# Altium integrated library CAP-CSGP_rev15b.intlib: 820 symbols (part 4 of 9)
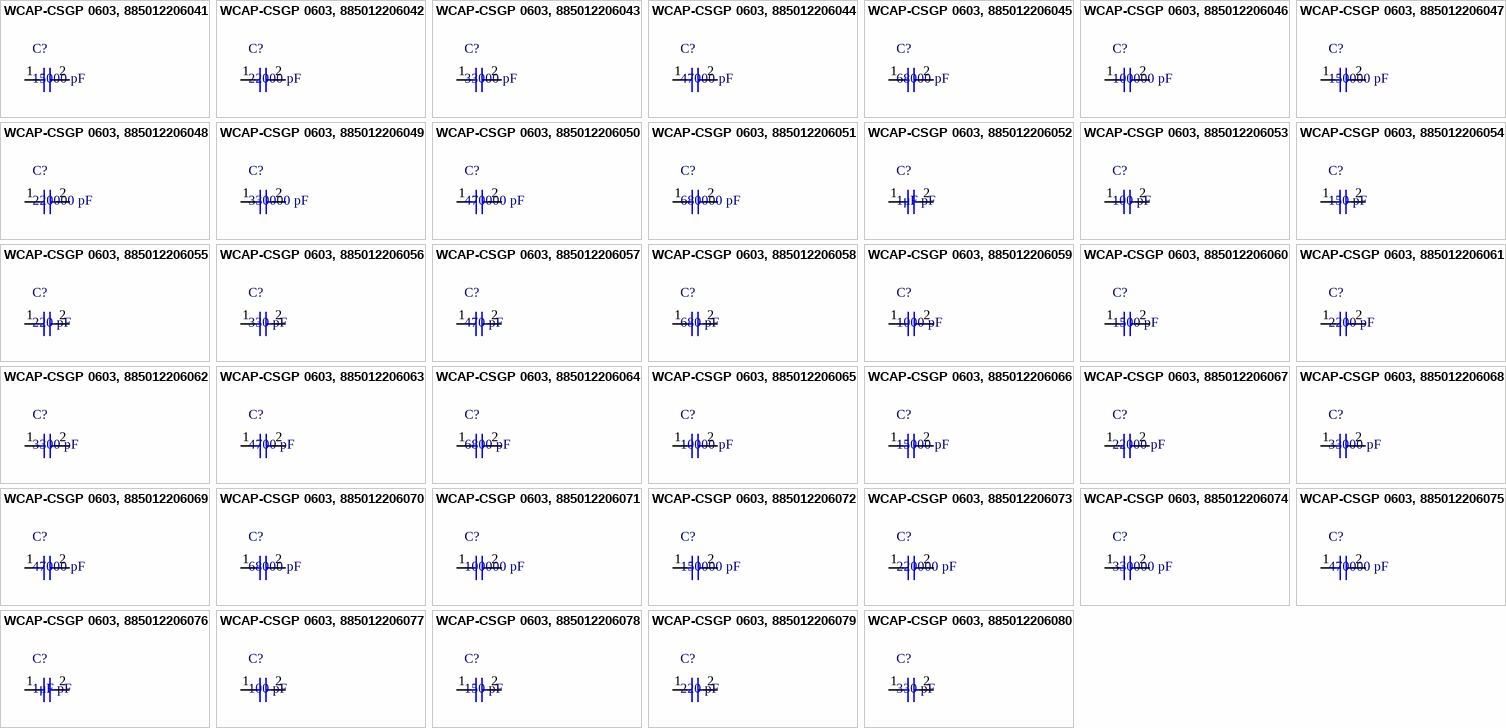
[diagram p31: symbols WCAP-CSGP 0603, 885012206041 to WCAP-CSGP 0603, 885012206080]

## WCAP-CSGP 0603, 885012206059
designator C?, comment 1000 pF
WCAP-CSGP MLCC, X7R, 0603, 1000 pF,25Vdc; Manufacturer: Wurth Elektronik; partNo: 885012206059; E-mail: libraries@we-online.com; ComponentLink1Description: Manufacturer; ComponentLink1URL: http://www.we-online.com; ComponentLink2Description: Datasheet; ComponentLink2URL: http://katalog.we-online.de/pbs/datasheet/885012206059.pdf; Created by: Karrer Zheng; Created Date: 3/9/2015; Capacitance: 1000 pF
footprint WCAP-CSGP 0603, H=0.8mm
pins: 1, 2

## WCAP-CSGP 0603, 885012206060
designator C?, comment 1500 pF
WCAP-CSGP MLCC, X7R, 0603, 1500 pF,25Vdc; Manufacturer: Wurth Elektronik; partNo: 885012206060; E-mail: libraries@we-online.com; ComponentLink1Description: Manufacturer; ComponentLink1URL: http://www.we-online.com; ComponentLink2Description: Datasheet; ComponentLink2URL: http://katalog.we-online.de/pbs/datasheet/885012206060.pdf; Created by: Karrer Zheng; Created Date: 3/9/2015; Capacitance: 1500 pF
footprint WCAP-CSGP 0603, H=0.8mm
pins: 1, 2

## WCAP-CSGP 0603, 885012206061
designator C?, comment 2200 pF
WCAP-CSGP MLCC, X7R, 0603, 2200 pF,25Vdc; Manufacturer: Wurth Elektronik; partNo: 885012206061; E-mail: libraries@we-online.com; ComponentLink1Description: Manufacturer; ComponentLink1URL: http://www.we-online.com; ComponentLink2Description: Datasheet; ComponentLink2URL: http://katalog.we-online.de/pbs/datasheet/885012206061.pdf; Created by: Karrer Zheng; Created Date: 3/9/2015; Capacitance: 2200 pF
footprint WCAP-CSGP 0603, H=0.8mm
pins: 1, 2

## WCAP-CSGP 0603, 885012206062
designator C?, comment 3300 pF
WCAP-CSGP MLCC, X7R, 0603, 3300 pF,25Vdc; Manufacturer: Wurth Elektronik; partNo: 885012206062; E-mail: libraries@we-online.com; ComponentLink1Description: Manufacturer; ComponentLink1URL: http://www.we-online.com; ComponentLink2Description: Datasheet; ComponentLink2URL: http://katalog.we-online.de/pbs/datasheet/885012206062.pdf; Created by: Karrer Zheng; Created Date: 3/9/2015; Capacitance: 3300 pF
footprint WCAP-CSGP 0603, H=0.8mm
pins: 1, 2

## WCAP-CSGP 0603, 885012206063
designator C?, comment 4700 pF
WCAP-CSGP MLCC, X7R, 0603, 4700 pF,25Vdc; Manufacturer: Wurth Elektronik; partNo: 885012206063; E-mail: libraries@we-online.com; ComponentLink1Description: Manufacturer; ComponentLink1URL: http://www.we-online.com; ComponentLink2Description: Datasheet; ComponentLink2URL: http://katalog.we-online.de/pbs/datasheet/885012206063.pdf; Created by: Karrer Zheng; Created Date: 3/9/2015; Capacitance: 4700 pF
footprint WCAP-CSGP 0603, H=0.8mm
pins: 1, 2

## WCAP-CSGP 0603, 885012206064
designator C?, comment 6800 pF
WCAP-CSGP MLCC, X7R, 0603, 6800 pF,25Vdc; Manufacturer: Wurth Elektronik; partNo: 885012206064; E-mail: libraries@we-online.com; ComponentLink1Description: Manufacturer; ComponentLink1URL: http://www.we-online.com; ComponentLink2Description: Datasheet; ComponentLink2URL: http://katalog.we-online.de/pbs/datasheet/885012206064.pdf; Created by: Karrer Zheng; Created Date: 3/9/2015; Capacitance: 6800 pF
footprint WCAP-CSGP 0603, H=0.8mm
pins: 1, 2

## WCAP-CSGP 0603, 885012206065
designator C?, comment 10000 pF
WCAP-CSGP MLCC, X7R, 0603, 10000 pF,25Vdc; Manufacturer: Wurth Elektronik; partNo: 885012206065; E-mail: libraries@we-online.com; ComponentLink1Description: Manufacturer; ComponentLink1URL: http://www.we-online.com; ComponentLink2Description: Datasheet; ComponentLink2URL: http://katalog.we-online.de/pbs/datasheet/885012206065.pdf; Created by: Karrer Zheng; Created Date: 3/9/2015; Capacitance: 10000 pF
footprint WCAP-CSGP 0603, H=0.8mm
pins: 1, 2

## WCAP-CSGP 0603, 885012206066
designator C?, comment 15000 pF
WCAP-CSGP MLCC, X7R, 0603, 15000 pF,25Vdc; Manufacturer: Wurth Elektronik; partNo: 885012206066; E-mail: libraries@we-online.com; ComponentLink1Description: Manufacturer; ComponentLink1URL: http://www.we-online.com; ComponentLink2Description: Datasheet; ComponentLink2URL: http://katalog.we-online.de/pbs/datasheet/885012206066.pdf; Created by: Karrer Zheng; Created Date: 3/9/2015; Capacitance: 15000 pF
footprint WCAP-CSGP 0603, H=0.8mm
pins: 1, 2

## WCAP-CSGP 0603, 885012206067
designator C?, comment 22000 pF
WCAP-CSGP MLCC, X7R, 0603, 22000 pF,25Vdc; Manufacturer: Wurth Elektronik; partNo: 885012206067; E-mail: libraries@we-online.com; ComponentLink1Description: Manufacturer; ComponentLink1URL: http://www.we-online.com; ComponentLink2Description: Datasheet; ComponentLink2URL: http://katalog.we-online.de/pbs/datasheet/885012206067.pdf; Created by: Karrer Zheng; Created Date: 3/9/2015; Capacitance: 22000 pF
footprint WCAP-CSGP 0603, H=0.8mm
pins: 1, 2

## WCAP-CSGP 0603, 885012206068
designator C?, comment 33000 pF
WCAP-CSGP MLCC, X7R, 0603, 33000 pF,25Vdc; Manufacturer: Wurth Elektronik; partNo: 885012206068; E-mail: libraries@we-online.com; ComponentLink1Description: Manufacturer; ComponentLink1URL: http://www.we-online.com; ComponentLink2Description: Datasheet; ComponentLink2URL: http://katalog.we-online.de/pbs/datasheet/885012206068.pdf; Created by: Karrer Zheng; Created Date: 3/9/2015; Capacitance: 33000 pF
footprint WCAP-CSGP 0603, H=0.8mm
pins: 1, 2

## WCAP-CSGP 0603, 885012206069
designator C?, comment 47000 pF
WCAP-CSGP MLCC, X7R, 0603, 47000 pF,25Vdc; Manufacturer: Wurth Elektronik; partNo: 885012206069; E-mail: libraries@we-online.com; ComponentLink1Description: Manufacturer; ComponentLink1URL: http://www.we-online.com; ComponentLink2Description: Datasheet; ComponentLink2URL: http://katalog.we-online.de/pbs/datasheet/885012206069.pdf; Created by: Karrer Zheng; Created Date: 3/9/2015; Capacitance: 47000 pF
footprint WCAP-CSGP 0603, H=0.8mm
pins: 1, 2

## WCAP-CSGP 0603, 885012206070
designator C?, comment 68000 pF
WCAP-CSGP MLCC, X7R, 0603, 68000 pF,25Vdc; Manufacturer: Wurth Elektronik; partNo: 885012206070; E-mail: libraries@we-online.com; ComponentLink1Description: Manufacturer; ComponentLink1URL: http://www.we-online.com; ComponentLink2Description: Datasheet; ComponentLink2URL: http://katalog.we-online.de/pbs/datasheet/885012206070.pdf; Created by: Karrer Zheng; Created Date: 3/9/2015; Capacitance: 68000 pF
footprint WCAP-CSGP 0603, H=0.8mm
pins: 1, 2

## WCAP-CSGP 0603, 885012206071
designator C?, comment 100000 pF
WCAP-CSGP MLCC, X7R, 0603, 100000 pF,25Vdc; Manufacturer: Wurth Elektronik; partNo: 885012206071; E-mail: libraries@we-online.com; ComponentLink1Description: Manufacturer; ComponentLink1URL: http://www.we-online.com; ComponentLink2Description: Datasheet; ComponentLink2URL: http://katalog.we-online.de/pbs/datasheet/885012206071.pdf; Created by: Karrer Zheng; Created Date: 3/9/2015; Capacitance: 100000 pF
footprint WCAP-CSGP 0603, H=0.8mm
pins: 1, 2

## WCAP-CSGP 0603, 885012206072
designator C?, comment 150000 pF
WCAP-CSGP MLCC, X7R, 0603, 150000 pF,25Vdc; Manufacturer: Wurth Elektronik; partNo: 885012206072; E-mail: libraries@we-online.com; ComponentLink1Description: Manufacturer; ComponentLink1URL: http://www.we-online.com; ComponentLink2Description: Datasheet; ComponentLink2URL: http://katalog.we-online.de/pbs/datasheet/885012206072.pdf; Created by: Karrer Zheng; Created Date: 3/9/2015; Capacitance: 150000 pF
footprint WCAP-CSGP 0603, H=0.8mm
pins: 1, 2

## WCAP-CSGP 0603, 885012206073
designator C?, comment 220000 pF
WCAP-CSGP MLCC, X7R, 0603, 220000 pF,25Vdc; Manufacturer: Wurth Elektronik; partNo: 885012206073; E-mail: libraries@we-online.com; ComponentLink1Description: Manufacturer; ComponentLink1URL: http://www.we-online.com; ComponentLink2Description: Datasheet; ComponentLink2URL: http://katalog.we-online.de/pbs/datasheet/885012206073.pdf; Created by: Karrer Zheng; Created Date: 3/9/2015; Capacitance: 220000 pF
footprint WCAP-CSGP 0603, H=0.8mm
pins: 1, 2

## WCAP-CSGP 0603, 885012206074
designator C?, comment 330000 pF
WCAP-CSGP MLCC, X7R, 0603, 330000 pF,25Vdc; Manufacturer: Wurth Elektronik; partNo: 885012206074; E-mail: libraries@we-online.com; ComponentLink1Description: Manufacturer; ComponentLink1URL: http://www.we-online.com; ComponentLink2Description: Datasheet; ComponentLink2URL: http://katalog.we-online.de/pbs/datasheet/885012206074.pdf; Created by: Karrer Zheng; Created Date: 3/9/2015; Capacitance: 330000 pF
footprint WCAP-CSGP 0603, H=0.8mm
pins: 1, 2

## WCAP-CSGP 0603, 885012206075
designator C?, comment 470000 pF
WCAP-CSGP MLCC, X7R, 0603, 470000 pF,25Vdc; Manufacturer: Wurth Elektronik; partNo: 885012206075; E-mail: libraries@we-online.com; ComponentLink1Description: Manufacturer; ComponentLink1URL: http://www.we-online.com; ComponentLink2Description: Datasheet; ComponentLink2URL: http://katalog.we-online.de/pbs/datasheet/885012206075.pdf; Created by: Karrer Zheng; Created Date: 3/9/2015; Capacitance: 470000 pF
footprint WCAP-CSGP 0603, H=0.8mm
pins: 1, 2

## WCAP-CSGP 0603, 885012206076
designator C?, comment 1μF pF
WCAP-CSGP MLCC, X7R, 0603, 1μF pF,25Vdc; Manufacturer: Wurth Elektronik; partNo: 885012206076; E-mail: libraries@we-online.com; ComponentLink1Description: Manufacturer; ComponentLink1URL: http://www.we-online.com; ComponentLink2Description: Datasheet; ComponentLink2URL: http://katalog.we-online.de/pbs/datasheet/885012206076.pdf; Created by: Karrer Zheng; Created Date: 3/9/2015; Capacitance: 1μF pF
footprint WCAP-CSGP 0603, H=0.8mm
pins: 1, 2

## WCAP-CSGP 0603, 885012206077
designator C?, comment 100 pF
WCAP-CSGP MLCC, X7R, 0603, 100 pF,50Vdc; Manufacturer: Wurth Elektronik; partNo: 885012206077; E-mail: libraries@we-online.com; ComponentLink1Description: Manufacturer; ComponentLink1URL: http://www.we-online.com; ComponentLink2Description: Datasheet; ComponentLink2URL: http://katalog.we-online.de/pbs/datasheet/885012206077.pdf; Created by: Karrer Zheng; Created Date: 3/9/2015; Capacitance: 100 pF
footprint WCAP-CSGP 0603, H=0.8mm
pins: 1, 2

## WCAP-CSGP 0603, 885012206078
designator C?, comment 150 pF
WCAP-CSGP MLCC, X7R, 0603, 150 pF,50Vdc; Manufacturer: Wurth Elektronik; partNo: 885012206078; E-mail: libraries@we-online.com; ComponentLink1Description: Manufacturer; ComponentLink1URL: http://www.we-online.com; ComponentLink2Description: Datasheet; ComponentLink2URL: http://katalog.we-online.de/pbs/datasheet/885012206078.pdf; Created by: Karrer Zheng; Created Date: 3/9/2015; Capacitance: 150 pF
footprint WCAP-CSGP 0603, H=0.8mm
pins: 1, 2

## WCAP-CSGP 0603, 885012206079
designator C?, comment 220 pF
WCAP-CSGP MLCC, X7R, 0603, 220 pF,50Vdc; Manufacturer: Wurth Elektronik; partNo: 885012206079; E-mail: libraries@we-online.com; ComponentLink1Description: Manufacturer; ComponentLink1URL: http://www.we-online.com; ComponentLink2Description: Datasheet; ComponentLink2URL: http://katalog.we-online.de/pbs/datasheet/885012206079.pdf; Created by: Karrer Zheng; Created Date: 3/9/2015; Capacitance: 220 pF
footprint WCAP-CSGP 0603, H=0.8mm
pins: 1, 2

## WCAP-CSGP 0603, 885012206080
designator C?, comment 330 pF
WCAP-CSGP MLCC, X7R, 0603, 330 pF,50Vdc; Manufacturer: Wurth Elektronik; partNo: 885012206080; E-mail: libraries@we-online.com; ComponentLink1Description: Manufacturer; ComponentLink1URL: http://www.we-online.com; ComponentLink2Description: Datasheet; ComponentLink2URL: http://katalog.we-online.de/pbs/datasheet/885012206080.pdf; Created by: Karrer Zheng; Created Date: 3/9/2015; Capacitance: 330 pF
footprint WCAP-CSGP 0603, H=0.8mm
pins: 1, 2

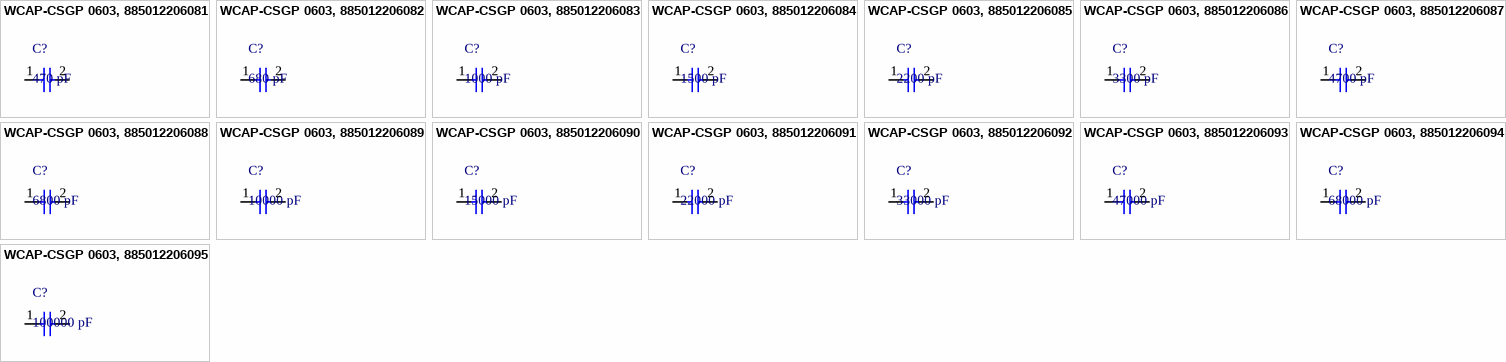
[diagram p10: symbols WCAP-CSGP 0603, 885012206081 to WCAP-CSGP 0603, 885012206095]

## WCAP-CSGP 0603, 885012206081
designator C?, comment 470 pF
WCAP-CSGP MLCC, X7R, 0603, 470 pF,50Vdc; Manufacturer: Wurth Elektronik; partNo: 885012206081; E-mail: libraries@we-online.com; ComponentLink1Description: Manufacturer; ComponentLink1URL: http://www.we-online.com; ComponentLink2Description: Datasheet; ComponentLink2URL: http://katalog.we-online.de/pbs/datasheet/885012206081.pdf; Created by: Karrer Zheng; Created Date: 3/9/2015; Capacitance: 470 pF
footprint WCAP-CSGP 0603, H=0.8mm
pins: 1, 2

## WCAP-CSGP 0603, 885012206082
designator C?, comment 680 pF
WCAP-CSGP MLCC, X7R, 0603, 680 pF,50Vdc; Manufacturer: Wurth Elektronik; partNo: 885012206082; E-mail: libraries@we-online.com; ComponentLink1Description: Manufacturer; ComponentLink1URL: http://www.we-online.com; ComponentLink2Description: Datasheet; ComponentLink2URL: http://katalog.we-online.de/pbs/datasheet/885012206082.pdf; Created by: Karrer Zheng; Created Date: 3/9/2015; Capacitance: 680 pF
footprint WCAP-CSGP 0603, H=0.8mm
pins: 1, 2

## WCAP-CSGP 0603, 885012206083
designator C?, comment 1000 pF
WCAP-CSGP MLCC, X7R, 0603, 1000 pF,50Vdc; Manufacturer: Wurth Elektronik; partNo: 885012206083; E-mail: libraries@we-online.com; ComponentLink1Description: Manufacturer; ComponentLink1URL: http://www.we-online.com; ComponentLink2Description: Datasheet; ComponentLink2URL: http://katalog.we-online.de/pbs/datasheet/885012206083.pdf; Created by: Karrer Zheng; Created Date: 3/9/2015; Capacitance: 1000 pF
footprint WCAP-CSGP 0603, H=0.8mm
pins: 1, 2

## WCAP-CSGP 0603, 885012206084
designator C?, comment 1500 pF
WCAP-CSGP MLCC, X7R, 0603, 1500 pF,50Vdc; Manufacturer: Wurth Elektronik; partNo: 885012206084; E-mail: libraries@we-online.com; ComponentLink1Description: Manufacturer; ComponentLink1URL: http://www.we-online.com; ComponentLink2Description: Datasheet; ComponentLink2URL: http://katalog.we-online.de/pbs/datasheet/885012206084.pdf; Created by: Karrer Zheng; Created Date: 3/9/2015; Capacitance: 1500 pF
footprint WCAP-CSGP 0603, H=0.8mm
pins: 1, 2

## WCAP-CSGP 0603, 885012206085
designator C?, comment 2200 pF
WCAP-CSGP MLCC, X7R, 0603, 2200 pF,50Vdc; Manufacturer: Wurth Elektronik; partNo: 885012206085; E-mail: libraries@we-online.com; ComponentLink1Description: Manufacturer; ComponentLink1URL: http://www.we-online.com; ComponentLink2Description: Datasheet; ComponentLink2URL: http://katalog.we-online.de/pbs/datasheet/885012206085.pdf; Created by: Karrer Zheng; Created Date: 3/9/2015; Capacitance: 2200 pF
footprint WCAP-CSGP 0603, H=0.8mm
pins: 1, 2

## WCAP-CSGP 0603, 885012206086
designator C?, comment 3300 pF
WCAP-CSGP MLCC, X7R, 0603, 3300 pF,50Vdc; Manufacturer: Wurth Elektronik; partNo: 885012206086; E-mail: libraries@we-online.com; ComponentLink1Description: Manufacturer; ComponentLink1URL: http://www.we-online.com; ComponentLink2Description: Datasheet; ComponentLink2URL: http://katalog.we-online.de/pbs/datasheet/885012206086.pdf; Created by: Karrer Zheng; Created Date: 3/9/2015; Capacitance: 3300 pF
footprint WCAP-CSGP 0603, H=0.8mm
pins: 1, 2

## WCAP-CSGP 0603, 885012206087
designator C?, comment 4700 pF
WCAP-CSGP MLCC, X7R, 0603, 4700 pF,50Vdc; Manufacturer: Wurth Elektronik; partNo: 885012206087; E-mail: libraries@we-online.com; ComponentLink1Description: Manufacturer; ComponentLink1URL: http://www.we-online.com; ComponentLink2Description: Datasheet; ComponentLink2URL: http://katalog.we-online.de/pbs/datasheet/885012206087.pdf; Created by: Karrer Zheng; Created Date: 3/9/2015; Capacitance: 4700 pF
footprint WCAP-CSGP 0603, H=0.8mm
pins: 1, 2

## WCAP-CSGP 0603, 885012206088
designator C?, comment 6800 pF
WCAP-CSGP MLCC, X7R, 0603, 6800 pF,50Vdc; Manufacturer: Wurth Elektronik; partNo: 885012206088; E-mail: libraries@we-online.com; ComponentLink1Description: Manufacturer; ComponentLink1URL: http://www.we-online.com; ComponentLink2Description: Datasheet; ComponentLink2URL: http://katalog.we-online.de/pbs/datasheet/885012206088.pdf; Created by: Karrer Zheng; Created Date: 3/9/2015; Capacitance: 6800 pF
footprint WCAP-CSGP 0603, H=0.8mm
pins: 1, 2

## WCAP-CSGP 0603, 885012206089
designator C?, comment 10000 pF
WCAP-CSGP MLCC, X7R, 0603, 10000 pF,50Vdc; Manufacturer: Wurth Elektronik; partNo: 885012206089; E-mail: libraries@we-online.com; ComponentLink1Description: Manufacturer; ComponentLink1URL: http://www.we-online.com; ComponentLink2Description: Datasheet; ComponentLink2URL: http://katalog.we-online.de/pbs/datasheet/885012206089.pdf; Created by: Karrer Zheng; Created Date: 3/9/2015; Capacitance: 10000 pF
footprint WCAP-CSGP 0603, H=0.8mm
pins: 1, 2

## WCAP-CSGP 0603, 885012206090
designator C?, comment 15000 pF
WCAP-CSGP MLCC, X7R, 0603, 15000 pF,50Vdc; Manufacturer: Wurth Elektronik; partNo: 885012206090; E-mail: libraries@we-online.com; ComponentLink1Description: Manufacturer; ComponentLink1URL: http://www.we-online.com; ComponentLink2Description: Datasheet; ComponentLink2URL: http://katalog.we-online.de/pbs/datasheet/885012206090.pdf; Created by: Karrer Zheng; Created Date: 3/9/2015; Capacitance: 15000 pF
footprint WCAP-CSGP 0603, H=0.8mm
pins: 1, 2

## WCAP-CSGP 0603, 885012206091
designator C?, comment 22000 pF
WCAP-CSGP MLCC, X7R, 0603, 22000 pF,50Vdc; Manufacturer: Wurth Elektronik; partNo: 885012206091; E-mail: libraries@we-online.com; ComponentLink1Description: Manufacturer; ComponentLink1URL: http://www.we-online.com; ComponentLink2Description: Datasheet; ComponentLink2URL: http://katalog.we-online.de/pbs/datasheet/885012206091.pdf; Created by: Karrer Zheng; Created Date: 3/9/2015; Capacitance: 22000 pF
footprint WCAP-CSGP 0603, H=0.8mm
pins: 1, 2

## WCAP-CSGP 0603, 885012206092
designator C?, comment 33000 pF
WCAP-CSGP MLCC, X7R, 0603, 33000 pF,50Vdc; Manufacturer: Wurth Elektronik; partNo: 885012206092; E-mail: libraries@we-online.com; ComponentLink1Description: Manufacturer; ComponentLink1URL: http://www.we-online.com; ComponentLink2Description: Datasheet; ComponentLink2URL: http://katalog.we-online.de/pbs/datasheet/885012206092.pdf; Created by: Karrer Zheng; Created Date: 3/9/2015; Capacitance: 33000 pF
footprint WCAP-CSGP 0603, H=0.8mm
pins: 1, 2

## WCAP-CSGP 0603, 885012206093
designator C?, comment 47000 pF
WCAP-CSGP MLCC, X7R, 0603, 47000 pF,50Vdc; Manufacturer: Wurth Elektronik; partNo: 885012206093; E-mail: libraries@we-online.com; ComponentLink1Description: Manufacturer; ComponentLink1URL: http://www.we-online.com; ComponentLink2Description: Datasheet; ComponentLink2URL: http://katalog.we-online.de/pbs/datasheet/885012206093.pdf; Created by: Karrer Zheng; Created Date: 3/9/2015; Capacitance: 47000 pF
footprint WCAP-CSGP 0603, H=0.8mm
pins: 1, 2

## WCAP-CSGP 0603, 885012206094
designator C?, comment 68000 pF
WCAP-CSGP MLCC, X7R, 0603, 68000 pF,50Vdc; Manufacturer: Wurth Elektronik; partNo: 885012206094; E-mail: libraries@we-online.com; ComponentLink1Description: Manufacturer; ComponentLink1URL: http://www.we-online.com; ComponentLink2Description: Datasheet; ComponentLink2URL: http://katalog.we-online.de/pbs/datasheet/885012206094.pdf; Created by: Karrer Zheng; Created Date: 3/9/2015; Capacitance: 68000 pF
footprint WCAP-CSGP 0603, H=0.8mm
pins: 1, 2

## WCAP-CSGP 0603, 885012206095
designator C?, comment 100000 pF
WCAP-CSGP MLCC, X7R, 0603, 100000 pF,50Vdc; Manufacturer: Wurth Elektronik; partNo: 885012206095; E-mail: libraries@we-online.com; ComponentLink1Description: Manufacturer; ComponentLink1URL: http://www.we-online.com; ComponentLink2Description: Datasheet; ComponentLink2URL: http://katalog.we-online.de/pbs/datasheet/885012206095.pdf; Created by: Karrer Zheng; Created Date: 3/9/2015; Capacitance: 100000 pF
footprint WCAP-CSGP 0603, H=0.8mm
pins: 1, 2


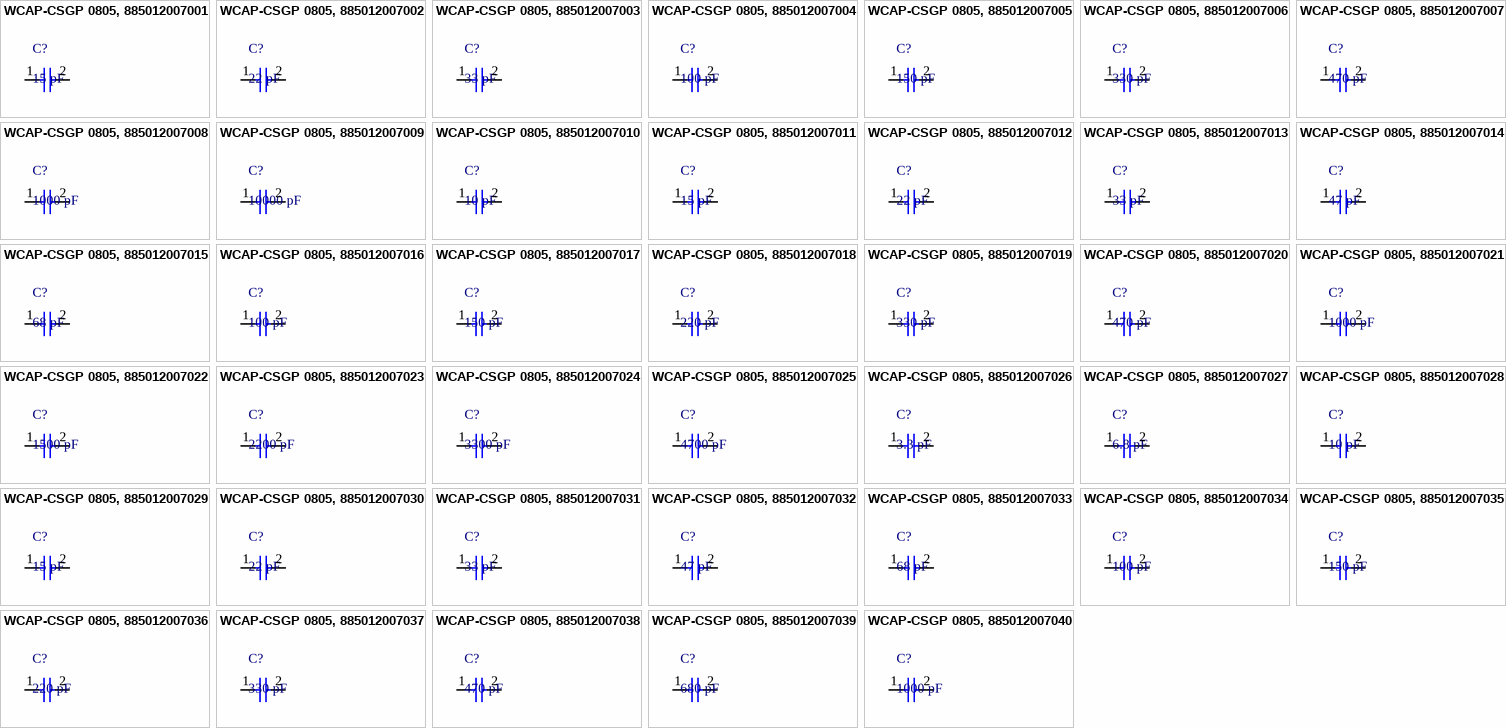
[diagram p11: symbols WCAP-CSGP 0805, 885012007001 to WCAP-CSGP 0805, 885012007040]

## WCAP-CSGP 0805, 885012007001
designator C?, comment 15 pF
WCAP-CSGP MLCC, NP0, 0805, 15 pF,10Vdc; Manufacturer: Wurth Elektronik; partNo: 885012007001; E-mail: libraries@we-online.com; ComponentLink1Description: Manufacturer; ComponentLink1URL: http://www.we-online.com; ComponentLink2Description: Datasheet; ComponentLink2URL: http://katalog.we-online.de/pbs/datasheet/885012007001.pdf; Created by: Karrer Zheng; Created Date: 3/9/2015; Capacitance: 15 pF
footprint WCAP-CSGP 0805, H=0.6mm
pins: 1, 2

## WCAP-CSGP 0805, 885012007002
designator C?, comment 22 pF
WCAP-CSGP MLCC, NP0, 0805, 22 pF,10Vdc; Manufacturer: Wurth Elektronik; partNo: 885012007002; E-mail: libraries@we-online.com; ComponentLink1Description: Manufacturer; ComponentLink1URL: http://www.we-online.com; ComponentLink2Description: Datasheet; ComponentLink2URL: http://katalog.we-online.de/pbs/datasheet/885012007002.pdf; Created by: Karrer Zheng; Created Date: 3/9/2015; Capacitance: 22 pF
footprint WCAP-CSGP 0805, H=0.6mm
pins: 1, 2

## WCAP-CSGP 0805, 885012007003
designator C?, comment 33 pF
WCAP-CSGP MLCC, NP0, 0805, 33 pF,10Vdc; Manufacturer: Wurth Elektronik; partNo: 885012007003; E-mail: libraries@we-online.com; ComponentLink1Description: Manufacturer; ComponentLink1URL: http://www.we-online.com; ComponentLink2Description: Datasheet; ComponentLink2URL: http://katalog.we-online.de/pbs/datasheet/885012007003.pdf; Created by: Karrer Zheng; Created Date: 3/9/2015; Capacitance: 33 pF
footprint WCAP-CSGP 0805, H=0.6mm
pins: 1, 2

## WCAP-CSGP 0805, 885012007004
designator C?, comment 100 pF
WCAP-CSGP MLCC, NP0, 0805, 100 pF,10Vdc; Manufacturer: Wurth Elektronik; partNo: 885012007004; E-mail: libraries@we-online.com; ComponentLink1Description: Manufacturer; ComponentLink1URL: http://www.we-online.com; ComponentLink2Description: Datasheet; ComponentLink2URL: http://katalog.we-online.de/pbs/datasheet/885012007004.pdf; Created by: Karrer Zheng; Created Date: 3/9/2015; Capacitance: 100 pF
footprint WCAP-CSGP 0805, H=0.6mm
pins: 1, 2

## WCAP-CSGP 0805, 885012007005
designator C?, comment 150 pF
WCAP-CSGP MLCC, NP0, 0805, 150 pF,10Vdc; Manufacturer: Wurth Elektronik; partNo: 885012007005; E-mail: libraries@we-online.com; ComponentLink1Description: Manufacturer; ComponentLink1URL: http://www.we-online.com; ComponentLink2Description: Datasheet; ComponentLink2URL: http://katalog.we-online.de/pbs/datasheet/885012007005.pdf; Created by: Karrer Zheng; Created Date: 3/9/2015; Capacitance: 150 pF
footprint WCAP-CSGP 0805, H=0.6mm
pins: 1, 2

## WCAP-CSGP 0805, 885012007006
designator C?, comment 330 pF
WCAP-CSGP MLCC, NP0, 0805, 330 pF,10Vdc; Manufacturer: Wurth Elektronik; partNo: 885012007006; E-mail: libraries@we-online.com; ComponentLink1Description: Manufacturer; ComponentLink1URL: http://www.we-online.com; ComponentLink2Description: Datasheet; ComponentLink2URL: http://katalog.we-online.de/pbs/datasheet/885012007006.pdf; Created by: Karrer Zheng; Created Date: 3/9/2015; Capacitance: 330 pF
footprint WCAP-CSGP 0805, H=0.6mm
pins: 1, 2

## WCAP-CSGP 0805, 885012007007
designator C?, comment 470 pF
WCAP-CSGP MLCC, NP0, 0805, 470 pF,10Vdc; Manufacturer: Wurth Elektronik; partNo: 885012007007; E-mail: libraries@we-online.com; ComponentLink1Description: Manufacturer; ComponentLink1URL: http://www.we-online.com; ComponentLink2Description: Datasheet; ComponentLink2URL: http://katalog.we-online.de/pbs/datasheet/885012007007.pdf; Created by: Karrer Zheng; Created Date: 3/9/2015; Capacitance: 470 pF
footprint WCAP-CSGP 0805, H=0.8mm
pins: 1, 2

## WCAP-CSGP 0805, 885012007008
designator C?, comment 1000 pF
WCAP-CSGP MLCC, NP0, 0805, 1000 pF,10Vdc; Manufacturer: Wurth Elektronik; partNo: 885012007008; E-mail: libraries@we-online.com; ComponentLink1Description: Manufacturer; ComponentLink1URL: http://www.we-online.com; ComponentLink2Description: Datasheet; ComponentLink2URL: http://katalog.we-online.de/pbs/datasheet/885012007008.pdf; Created by: Karrer Zheng; Created Date: 3/9/2015; Capacitance: 1000 pF
footprint WCAP-CSGP 0805, H=0.8mm
pins: 1, 2

## WCAP-CSGP 0805, 885012007009
designator C?, comment 10000 pF
WCAP-CSGP MLCC, NP0, 0805, 10000 pF,10Vdc; Manufacturer: Wurth Elektronik; partNo: 885012007009; E-mail: libraries@we-online.com; ComponentLink1Description: Manufacturer; ComponentLink1URL: http://www.we-online.com; ComponentLink2Description: Datasheet; ComponentLink2URL: http://katalog.we-online.de/pbs/datasheet/885012007009.pdf; Created by: Karrer Zheng; Created Date: 3/9/2015; Capacitance: 10000 pF
footprint WCAP-CSGP 0805, H=1.25mm
pins: 1, 2

## WCAP-CSGP 0805, 885012007010
designator C?, comment 10 pF
WCAP-CSGP MLCC, NP0, 0805, 10 pF,16Vdc; Manufacturer: Wurth Elektronik; partNo: 885012007010; E-mail: libraries@we-online.com; ComponentLink1Description: Manufacturer; ComponentLink1URL: http://www.we-online.com; ComponentLink2Description: Datasheet; ComponentLink2URL: http://katalog.we-online.de/pbs/datasheet/885012007010.pdf; Created by: Karrer Zheng; Created Date: 3/9/2015; Capacitance: 10 pF
footprint WCAP-CSGP 0805, H=0.6mm
pins: 1, 2

## WCAP-CSGP 0805, 885012007011
designator C?, comment 15 pF
WCAP-CSGP MLCC, NP0, 0805, 15 pF,16Vdc; Manufacturer: Wurth Elektronik; partNo: 885012007011; E-mail: libraries@we-online.com; ComponentLink1Description: Manufacturer; ComponentLink1URL: http://www.we-online.com; ComponentLink2Description: Datasheet; ComponentLink2URL: http://katalog.we-online.de/pbs/datasheet/885012007011.pdf; Created by: Karrer Zheng; Created Date: 3/9/2015; Capacitance: 15 pF
footprint WCAP-CSGP 0805, H=0.6mm
pins: 1, 2

## WCAP-CSGP 0805, 885012007012
designator C?, comment 22 pF
WCAP-CSGP MLCC, NP0, 0805, 22 pF,16Vdc; Manufacturer: Wurth Elektronik; partNo: 885012007012; E-mail: libraries@we-online.com; ComponentLink1Description: Manufacturer; ComponentLink1URL: http://www.we-online.com; ComponentLink2Description: Datasheet; ComponentLink2URL: http://katalog.we-online.de/pbs/datasheet/885012007012.pdf; Created by: Karrer Zheng; Created Date: 3/9/2015; Capacitance: 22 pF
footprint WCAP-CSGP 0805, H=0.6mm
pins: 1, 2

## WCAP-CSGP 0805, 885012007013
designator C?, comment 33 pF
WCAP-CSGP MLCC, NP0, 0805, 33 pF,16Vdc; Manufacturer: Wurth Elektronik; partNo: 885012007013; E-mail: libraries@we-online.com; ComponentLink1Description: Manufacturer; ComponentLink1URL: http://www.we-online.com; ComponentLink2Description: Datasheet; ComponentLink2URL: http://katalog.we-online.de/pbs/datasheet/885012007013.pdf; Created by: Karrer Zheng; Created Date: 3/9/2015; Capacitance: 33 pF
footprint WCAP-CSGP 0805, H=0.6mm
pins: 1, 2

## WCAP-CSGP 0805, 885012007014
designator C?, comment 47 pF
WCAP-CSGP MLCC, NP0, 0805, 47 pF,16Vdc; Manufacturer: Wurth Elektronik; partNo: 885012007014; E-mail: libraries@we-online.com; ComponentLink1Description: Manufacturer; ComponentLink1URL: http://www.we-online.com; ComponentLink2Description: Datasheet; ComponentLink2URL: http://katalog.we-online.de/pbs/datasheet/885012007014.pdf; Created by: Karrer Zheng; Created Date: 3/9/2015; Capacitance: 47 pF
footprint WCAP-CSGP 0805, H=0.6mm
pins: 1, 2

## WCAP-CSGP 0805, 885012007015
designator C?, comment 68 pF
WCAP-CSGP MLCC, NP0, 0805, 68 pF,16Vdc; Manufacturer: Wurth Elektronik; partNo: 885012007015; E-mail: libraries@we-online.com; ComponentLink1Description: Manufacturer; ComponentLink1URL: http://www.we-online.com; ComponentLink2Description: Datasheet; ComponentLink2URL: http://katalog.we-online.de/pbs/datasheet/885012007015.pdf; Created by: Karrer Zheng; Created Date: 3/9/2015; Capacitance: 68 pF
footprint WCAP-CSGP 0805, H=0.6mm
pins: 1, 2

## WCAP-CSGP 0805, 885012007016
designator C?, comment 100 pF
WCAP-CSGP MLCC, NP0, 0805, 100 pF,16Vdc; Manufacturer: Wurth Elektronik; partNo: 885012007016; E-mail: libraries@we-online.com; ComponentLink1Description: Manufacturer; ComponentLink1URL: http://www.we-online.com; ComponentLink2Description: Datasheet; ComponentLink2URL: http://katalog.we-online.de/pbs/datasheet/885012007016.pdf; Created by: Karrer Zheng; Created Date: 3/9/2015; Capacitance: 100 pF
footprint WCAP-CSGP 0805, H=0.6mm
pins: 1, 2

## WCAP-CSGP 0805, 885012007017
designator C?, comment 150 pF
WCAP-CSGP MLCC, NP0, 0805, 150 pF,16Vdc; Manufacturer: Wurth Elektronik; partNo: 885012007017; E-mail: libraries@we-online.com; ComponentLink1Description: Manufacturer; ComponentLink1URL: http://www.we-online.com; ComponentLink2Description: Datasheet; ComponentLink2URL: http://katalog.we-online.de/pbs/datasheet/885012007017.pdf; Created by: Karrer Zheng; Created Date: 3/9/2015; Capacitance: 150 pF
footprint WCAP-CSGP 0805, H=0.6mm
pins: 1, 2

## WCAP-CSGP 0805, 885012007018
designator C?, comment 220 pF
WCAP-CSGP MLCC, NP0, 0805, 220 pF,16Vdc; Manufacturer: Wurth Elektronik; partNo: 885012007018; E-mail: libraries@we-online.com; ComponentLink1Description: Manufacturer; ComponentLink1URL: http://www.we-online.com; ComponentLink2Description: Datasheet; ComponentLink2URL: http://katalog.we-online.de/pbs/datasheet/885012007018.pdf; Created by: Karrer Zheng; Created Date: 3/9/2015; Capacitance: 220 pF
footprint WCAP-CSGP 0805, H=0.6mm
pins: 1, 2

## WCAP-CSGP 0805, 885012007019
designator C?, comment 330 pF
WCAP-CSGP MLCC, NP0, 0805, 330 pF,16Vdc; Manufacturer: Wurth Elektronik; partNo: 885012007019; E-mail: libraries@we-online.com; ComponentLink1Description: Manufacturer; ComponentLink1URL: http://www.we-online.com; ComponentLink2Description: Datasheet; ComponentLink2URL: http://katalog.we-online.de/pbs/datasheet/885012007019.pdf; Created by: Karrer Zheng; Created Date: 3/9/2015; Capacitance: 330 pF
footprint WCAP-CSGP 0805, H=0.6mm
pins: 1, 2

## WCAP-CSGP 0805, 885012007020
designator C?, comment 470 pF
WCAP-CSGP MLCC, NP0, 0805, 470 pF,16Vdc; Manufacturer: Wurth Elektronik; partNo: 885012007020; E-mail: libraries@we-online.com; ComponentLink1Description: Manufacturer; ComponentLink1URL: http://www.we-online.com; ComponentLink2Description: Datasheet; ComponentLink2URL: http://katalog.we-online.de/pbs/datasheet/885012007020.pdf; Created by: Karrer Zheng; Created Date: 3/9/2015; Capacitance: 470 pF
footprint WCAP-CSGP 0805, H=0.8mm
pins: 1, 2

## WCAP-CSGP 0805, 885012007021
designator C?, comment 1000 pF
WCAP-CSGP MLCC, NP0, 0805, 1000 pF,16Vdc; Manufacturer: Wurth Elektronik; partNo: 885012007021; E-mail: libraries@we-online.com; ComponentLink1Description: Manufacturer; ComponentLink1URL: http://www.we-online.com; ComponentLink2Description: Datasheet; ComponentLink2URL: http://katalog.we-online.de/pbs/datasheet/885012007021.pdf; Created by: Karrer Zheng; Created Date: 3/9/2015; Capacitance: 1000 pF
footprint WCAP-CSGP 0805, H=0.8mm
pins: 1, 2

## WCAP-CSGP 0805, 885012007022
designator C?, comment 1500 pF
WCAP-CSGP MLCC, NP0, 0805, 1500 pF,16Vdc; Manufacturer: Wurth Elektronik; partNo: 885012007022; E-mail: libraries@we-online.com; ComponentLink1Description: Manufacturer; ComponentLink1URL: http://www.we-online.com; ComponentLink2Description: Datasheet; ComponentLink2URL: http://katalog.we-online.de/pbs/datasheet/885012007022.pdf; Created by: Karrer Zheng; Created Date: 3/9/2015; Capacitance: 1500 pF
footprint WCAP-CSGP 0805, H=0.8mm
pins: 1, 2

## WCAP-CSGP 0805, 885012007023
designator C?, comment 2200 pF
WCAP-CSGP MLCC, NP0, 0805, 2200 pF,16Vdc; Manufacturer: Wurth Elektronik; partNo: 885012007023; E-mail: libraries@we-online.com; ComponentLink1Description: Manufacturer; ComponentLink1URL: http://www.we-online.com; ComponentLink2Description: Datasheet; ComponentLink2URL: http://katalog.we-online.de/pbs/datasheet/885012007023.pdf; Created by: Karrer Zheng; Created Date: 3/9/2015; Capacitance: 2200 pF
footprint WCAP-CSGP 0805, H=0.8mm
pins: 1, 2

## WCAP-CSGP 0805, 885012007024
designator C?, comment 3300 pF
WCAP-CSGP MLCC, NP0, 0805, 3300 pF,16Vdc; Manufacturer: Wurth Elektronik; partNo: 885012007024; E-mail: libraries@we-online.com; ComponentLink1Description: Manufacturer; ComponentLink1URL: http://www.we-online.com; ComponentLink2Description: Datasheet; ComponentLink2URL: http://katalog.we-online.de/pbs/datasheet/885012007024.pdf; Created by: Karrer Zheng; Created Date: 3/9/2015; Capacitance: 3300 pF
footprint WCAP-CSGP 0805, H=1.25mm
pins: 1, 2

## WCAP-CSGP 0805, 885012007025
designator C?, comment 4700 pF
WCAP-CSGP MLCC, NP0, 0805, 4700 pF,16Vdc; Manufacturer: Wurth Elektronik; partNo: 885012007025; E-mail: libraries@we-online.com; ComponentLink1Description: Manufacturer; ComponentLink1URL: http://www.we-online.com; ComponentLink2Description: Datasheet; ComponentLink2URL: http://katalog.we-online.de/pbs/datasheet/885012007025.pdf; Created by: Karrer Zheng; Created Date: 3/9/2015; Capacitance: 4700 pF
footprint WCAP-CSGP 0805, H=1.25mm
pins: 1, 2

## WCAP-CSGP 0805, 885012007026
designator C?, comment 3.3 pF
WCAP-CSGP MLCC, NP0, 0805, 3.3 pF,25Vdc; Manufacturer: Wurth Elektronik; partNo: 885012007026; E-mail: libraries@we-online.com; ComponentLink1Description: Manufacturer; ComponentLink1URL: http://www.we-online.com; ComponentLink2Description: Datasheet; ComponentLink2URL: http://katalog.we-online.de/pbs/datasheet/885012007026.pdf; Created by: Karrer Zheng; Created Date: 3/9/2015; Capacitance: 3.3 pF
footprint WCAP-CSGP 0805, H=0.6mm
pins: 1, 2

## WCAP-CSGP 0805, 885012007027
designator C?, comment 6.8 pF
WCAP-CSGP MLCC, NP0, 0805, 6.8 pF,25Vdc; Manufacturer: Wurth Elektronik; partNo: 885012007027; E-mail: libraries@we-online.com; ComponentLink1Description: Manufacturer; ComponentLink1URL: http://www.we-online.com; ComponentLink2Description: Datasheet; ComponentLink2URL: http://katalog.we-online.de/pbs/datasheet/885012007027.pdf; Created by: Karrer Zheng; Created Date: 3/9/2015; Capacitance: 6.8 pF
footprint WCAP-CSGP 0805, H=0.6mm
pins: 1, 2

## WCAP-CSGP 0805, 885012007028
designator C?, comment 10 pF
WCAP-CSGP MLCC, NP0, 0805, 10 pF,25Vdc; Manufacturer: Wurth Elektronik; partNo: 885012007028; E-mail: libraries@we-online.com; ComponentLink1Description: Manufacturer; ComponentLink1URL: http://www.we-online.com; ComponentLink2Description: Datasheet; ComponentLink2URL: http://katalog.we-online.de/pbs/datasheet/885012007028.pdf; Created by: Karrer Zheng; Created Date: 3/9/2015; Capacitance: 10 pF
footprint WCAP-CSGP 0805, H=0.6mm
pins: 1, 2

## WCAP-CSGP 0805, 885012007029
designator C?, comment 15 pF
WCAP-CSGP MLCC, NP0, 0805, 15 pF,25Vdc; Manufacturer: Wurth Elektronik; partNo: 885012007029; E-mail: libraries@we-online.com; ComponentLink1Description: Manufacturer; ComponentLink1URL: http://www.we-online.com; ComponentLink2Description: Datasheet; ComponentLink2URL: http://katalog.we-online.de/pbs/datasheet/885012007029.pdf; Created by: Karrer Zheng; Created Date: 3/9/2015; Capacitance: 15 pF
footprint WCAP-CSGP 0805, H=0.6mm
pins: 1, 2

## WCAP-CSGP 0805, 885012007030
designator C?, comment 22 pF
WCAP-CSGP MLCC, NP0, 0805, 22 pF,25Vdc; Manufacturer: Wurth Elektronik; partNo: 885012007030; E-mail: libraries@we-online.com; ComponentLink1Description: Manufacturer; ComponentLink1URL: http://www.we-online.com; ComponentLink2Description: Datasheet; ComponentLink2URL: http://katalog.we-online.de/pbs/datasheet/885012007030.pdf; Created by: Karrer Zheng; Created Date: 3/9/2015; Capacitance: 22 pF
footprint WCAP-CSGP 0805, H=0.6mm
pins: 1, 2

## WCAP-CSGP 0805, 885012007031
designator C?, comment 33 pF
WCAP-CSGP MLCC, NP0, 0805, 33 pF,25Vdc; Manufacturer: Wurth Elektronik; partNo: 885012007031; E-mail: libraries@we-online.com; ComponentLink1Description: Manufacturer; ComponentLink1URL: http://www.we-online.com; ComponentLink2Description: Datasheet; ComponentLink2URL: http://katalog.we-online.de/pbs/datasheet/885012007031.pdf; Created by: Karrer Zheng; Created Date: 3/9/2015; Capacitance: 33 pF
footprint WCAP-CSGP 0805, H=0.6mm
pins: 1, 2

## WCAP-CSGP 0805, 885012007032
designator C?, comment 47 pF
WCAP-CSGP MLCC, NP0, 0805, 47 pF,25Vdc; Manufacturer: Wurth Elektronik; partNo: 885012007032; E-mail: libraries@we-online.com; ComponentLink1Description: Manufacturer; ComponentLink1URL: http://www.we-online.com; ComponentLink2Description: Datasheet; ComponentLink2URL: http://katalog.we-online.de/pbs/datasheet/885012007032.pdf; Created by: Karrer Zheng; Created Date: 3/9/2015; Capacitance: 47 pF
footprint WCAP-CSGP 0805, H=0.6mm
pins: 1, 2

## WCAP-CSGP 0805, 885012007033
designator C?, comment 68 pF
WCAP-CSGP MLCC, NP0, 0805, 68 pF,25Vdc; Manufacturer: Wurth Elektronik; partNo: 885012007033; E-mail: libraries@we-online.com; ComponentLink1Description: Manufacturer; ComponentLink1URL: http://www.we-online.com; ComponentLink2Description: Datasheet; ComponentLink2URL: http://katalog.we-online.de/pbs/datasheet/885012007033.pdf; Created by: Karrer Zheng; Created Date: 3/9/2015; Capacitance: 68 pF
footprint WCAP-CSGP 0805, H=0.6mm
pins: 1, 2

## WCAP-CSGP 0805, 885012007034
designator C?, comment 100 pF
WCAP-CSGP MLCC, NP0, 0805, 100 pF,25Vdc; Manufacturer: Wurth Elektronik; partNo: 885012007034; E-mail: libraries@we-online.com; ComponentLink1Description: Manufacturer; ComponentLink1URL: http://www.we-online.com; ComponentLink2Description: Datasheet; ComponentLink2URL: http://katalog.we-online.de/pbs/datasheet/885012007034.pdf; Created by: Karrer Zheng; Created Date: 3/9/2015; Capacitance: 100 pF
footprint WCAP-CSGP 0805, H=0.6mm
pins: 1, 2

## WCAP-CSGP 0805, 885012007035
designator C?, comment 150 pF
WCAP-CSGP MLCC, NP0, 0805, 150 pF,25Vdc; Manufacturer: Wurth Elektronik; partNo: 885012007035; E-mail: libraries@we-online.com; ComponentLink1Description: Manufacturer; ComponentLink1URL: http://www.we-online.com; ComponentLink2Description: Datasheet; ComponentLink2URL: http://katalog.we-online.de/pbs/datasheet/885012007035.pdf; Created by: Karrer Zheng; Created Date: 3/9/2015; Capacitance: 150 pF
footprint WCAP-CSGP 0805, H=0.6mm
pins: 1, 2

## WCAP-CSGP 0805, 885012007036
designator C?, comment 220 pF
WCAP-CSGP MLCC, NP0, 0805, 220 pF,25Vdc; Manufacturer: Wurth Elektronik; partNo: 885012007036; E-mail: libraries@we-online.com; ComponentLink1Description: Manufacturer; ComponentLink1URL: http://www.we-online.com; ComponentLink2Description: Datasheet; ComponentLink2URL: http://katalog.we-online.de/pbs/datasheet/885012007036.pdf; Created by: Karrer Zheng; Created Date: 3/9/2015; Capacitance: 220 pF
footprint WCAP-CSGP 0805, H=0.6mm
pins: 1, 2

## WCAP-CSGP 0805, 885012007037
designator C?, comment 330 pF
WCAP-CSGP MLCC, NP0, 0805, 330 pF,25Vdc; Manufacturer: Wurth Elektronik; partNo: 885012007037; E-mail: libraries@we-online.com; ComponentLink1Description: Manufacturer; ComponentLink1URL: http://www.we-online.com; ComponentLink2Description: Datasheet; ComponentLink2URL: http://katalog.we-online.de/pbs/datasheet/885012007037.pdf; Created by: Karrer Zheng; Created Date: 3/9/2015; Capacitance: 330 pF
footprint WCAP-CSGP 0805, H=0.6mm
pins: 1, 2

## WCAP-CSGP 0805, 885012007038
designator C?, comment 470 pF
WCAP-CSGP MLCC, NP0, 0805, 470 pF,25Vdc; Manufacturer: Wurth Elektronik; partNo: 885012007038; E-mail: libraries@we-online.com; ComponentLink1Description: Manufacturer; ComponentLink1URL: http://www.we-online.com; ComponentLink2Description: Datasheet; ComponentLink2URL: http://katalog.we-online.de/pbs/datasheet/885012007038.pdf; Created by: Karrer Zheng; Created Date: 3/9/2015; Capacitance: 470 pF
footprint WCAP-CSGP 0805, H=0.8mm
pins: 1, 2

## WCAP-CSGP 0805, 885012007039
designator C?, comment 680 pF
WCAP-CSGP MLCC, NP0, 0805, 680 pF,25Vdc; Manufacturer: Wurth Elektronik; partNo: 885012007039; E-mail: libraries@we-online.com; ComponentLink1Description: Manufacturer; ComponentLink1URL: http://www.we-online.com; ComponentLink2Description: Datasheet; ComponentLink2URL: http://katalog.we-online.de/pbs/datasheet/885012007039.pdf; Created by: Karrer Zheng; Created Date: 3/9/2015; Capacitance: 680 pF
footprint WCAP-CSGP 0805, H=0.8mm
pins: 1, 2

## WCAP-CSGP 0805, 885012007040
designator C?, comment 1000 pF
WCAP-CSGP MLCC, NP0, 0805, 1000 pF,25Vdc; Manufacturer: Wurth Elektronik; partNo: 885012007040; E-mail: libraries@we-online.com; ComponentLink1Description: Manufacturer; ComponentLink1URL: http://www.we-online.com; ComponentLink2Description: Datasheet; ComponentLink2URL: http://katalog.we-online.de/pbs/datasheet/885012007040.pdf; Created by: Karrer Zheng; Created Date: 3/9/2015; Capacitance: 1000 pF
footprint WCAP-CSGP 0805, H=0.8mm
pins: 1, 2

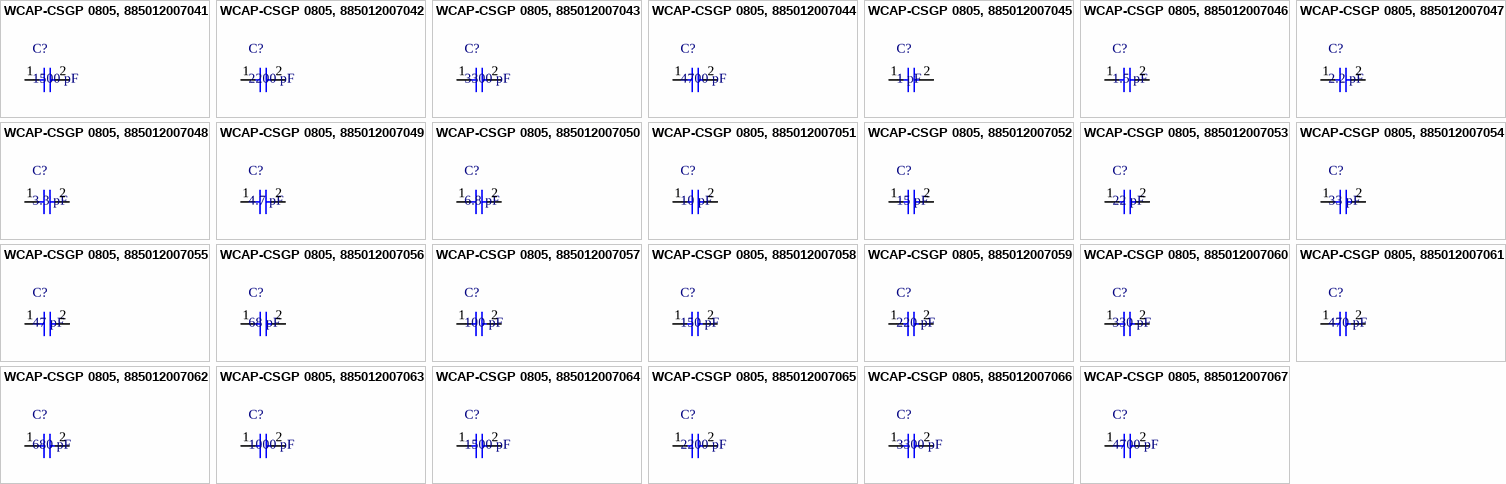
[diagram p12: symbols WCAP-CSGP 0805, 885012007041 to WCAP-CSGP 0805, 885012007067]

## WCAP-CSGP 0805, 885012007041
designator C?, comment 1500 pF
WCAP-CSGP MLCC, NP0, 0805, 1500 pF,25Vdc; Manufacturer: Wurth Elektronik; partNo: 885012007041; E-mail: libraries@we-online.com; ComponentLink1Description: Manufacturer; ComponentLink1URL: http://www.we-online.com; ComponentLink2Description: Datasheet; ComponentLink2URL: http://katalog.we-online.de/pbs/datasheet/885012007041.pdf; Created by: Karrer Zheng; Created Date: 3/9/2015; Capacitance: 1500 pF
footprint WCAP-CSGP 0805, H=0.8mm
pins: 1, 2

## WCAP-CSGP 0805, 885012007042
designator C?, comment 2200 pF
WCAP-CSGP MLCC, NP0, 0805, 2200 pF,25Vdc; Manufacturer: Wurth Elektronik; partNo: 885012007042; E-mail: libraries@we-online.com; ComponentLink1Description: Manufacturer; ComponentLink1URL: http://www.we-online.com; ComponentLink2Description: Datasheet; ComponentLink2URL: http://katalog.we-online.de/pbs/datasheet/885012007042.pdf; Created by: Karrer Zheng; Created Date: 3/9/2015; Capacitance: 2200 pF
footprint WCAP-CSGP 0805, H=0.8mm
pins: 1, 2

## WCAP-CSGP 0805, 885012007043
designator C?, comment 3300 pF
WCAP-CSGP MLCC, NP0, 0805, 3300 pF,25Vdc; Manufacturer: Wurth Elektronik; partNo: 885012007043; E-mail: libraries@we-online.com; ComponentLink1Description: Manufacturer; ComponentLink1URL: http://www.we-online.com; ComponentLink2Description: Datasheet; ComponentLink2URL: http://katalog.we-online.de/pbs/datasheet/885012007043.pdf; Created by: Karrer Zheng; Created Date: 3/9/2015; Capacitance: 3300 pF
footprint WCAP-CSGP 0805, H=1.25mm
pins: 1, 2

## WCAP-CSGP 0805, 885012007044
designator C?, comment 4700 pF
WCAP-CSGP MLCC, NP0, 0805, 4700 pF,25Vdc; Manufacturer: Wurth Elektronik; partNo: 885012007044; E-mail: libraries@we-online.com; ComponentLink1Description: Manufacturer; ComponentLink1URL: http://www.we-online.com; ComponentLink2Description: Datasheet; ComponentLink2URL: http://katalog.we-online.de/pbs/datasheet/885012007044.pdf; Created by: Karrer Zheng; Created Date: 3/9/2015; Capacitance: 4700 pF
footprint WCAP-CSGP 0805, H=1.25mm
pins: 1, 2

## WCAP-CSGP 0805, 885012007045
designator C?, comment 1 pF
WCAP-CSGP MLCC, NP0, 0805, 1 pF,50Vdc; Manufacturer: Wurth Elektronik; partNo: 885012007045; E-mail: libraries@we-online.com; ComponentLink1Description: Manufacturer; ComponentLink1URL: http://www.we-online.com; ComponentLink2Description: Datasheet; ComponentLink2URL: http://katalog.we-online.de/pbs/datasheet/885012007045.pdf; Created by: Karrer Zheng; Created Date: 3/9/2015; Capacitance: 1 pF
footprint WCAP-CSGP 0805, H=0.6mm
pins: 1, 2

## WCAP-CSGP 0805, 885012007046
designator C?, comment 1.5 pF
WCAP-CSGP MLCC, NP0, 0805, 1.5 pF,50Vdc; Manufacturer: Wurth Elektronik; partNo: 885012007046; E-mail: libraries@we-online.com; ComponentLink1Description: Manufacturer; ComponentLink1URL: http://www.we-online.com; ComponentLink2Description: Datasheet; ComponentLink2URL: http://katalog.we-online.de/pbs/datasheet/885012007046.pdf; Created by: Karrer Zheng; Created Date: 3/9/2015; Capacitance: 1.5 pF
footprint WCAP-CSGP 0805, H=0.6mm
pins: 1, 2

## WCAP-CSGP 0805, 885012007047
designator C?, comment 2.2 pF
WCAP-CSGP MLCC, NP0, 0805, 2.2 pF,50Vdc; Manufacturer: Wurth Elektronik; partNo: 885012007047; E-mail: libraries@we-online.com; ComponentLink1Description: Manufacturer; ComponentLink1URL: http://www.we-online.com; ComponentLink2Description: Datasheet; ComponentLink2URL: http://katalog.we-online.de/pbs/datasheet/885012007047.pdf; Created by: Karrer Zheng; Created Date: 3/9/2015; Capacitance: 2.2 pF
footprint WCAP-CSGP 0805, H=0.6mm
pins: 1, 2

## WCAP-CSGP 0805, 885012007048
designator C?, comment 3.3 pF
WCAP-CSGP MLCC, NP0, 0805, 3.3 pF,50Vdc; Manufacturer: Wurth Elektronik; partNo: 885012007048; E-mail: libraries@we-online.com; ComponentLink1Description: Manufacturer; ComponentLink1URL: http://www.we-online.com; ComponentLink2Description: Datasheet; ComponentLink2URL: http://katalog.we-online.de/pbs/datasheet/885012007048.pdf; Created by: Karrer Zheng; Created Date: 3/9/2015; Capacitance: 3.3 pF
footprint WCAP-CSGP 0805, H=0.6mm
pins: 1, 2

## WCAP-CSGP 0805, 885012007049
designator C?, comment 4.7 pF
WCAP-CSGP MLCC, NP0, 0805, 4.7 pF,50Vdc; Manufacturer: Wurth Elektronik; partNo: 885012007049; E-mail: libraries@we-online.com; ComponentLink1Description: Manufacturer; ComponentLink1URL: http://www.we-online.com; ComponentLink2Description: Datasheet; ComponentLink2URL: http://katalog.we-online.de/pbs/datasheet/885012007049.pdf; Created by: Karrer Zheng; Created Date: 3/9/2015; Capacitance: 4.7 pF
footprint WCAP-CSGP 0805, H=0.6mm
pins: 1, 2

## WCAP-CSGP 0805, 885012007050
designator C?, comment 6.8 pF
WCAP-CSGP MLCC, NP0, 0805, 6.8 pF,50Vdc; Manufacturer: Wurth Elektronik; partNo: 885012007050; E-mail: libraries@we-online.com; ComponentLink1Description: Manufacturer; ComponentLink1URL: http://www.we-online.com; ComponentLink2Description: Datasheet; ComponentLink2URL: http://katalog.we-online.de/pbs/datasheet/885012007050.pdf; Created by: Karrer Zheng; Created Date: 3/9/2015; Capacitance: 6.8 pF
footprint WCAP-CSGP 0805, H=0.6mm
pins: 1, 2

## WCAP-CSGP 0805, 885012007051
designator C?, comment 10 pF
WCAP-CSGP MLCC, NP0, 0805, 10 pF,50Vdc; Manufacturer: Wurth Elektronik; partNo: 885012007051; E-mail: libraries@we-online.com; ComponentLink1Description: Manufacturer; ComponentLink1URL: http://www.we-online.com; ComponentLink2Description: Datasheet; ComponentLink2URL: http://katalog.we-online.de/pbs/datasheet/885012007051.pdf; Created by: Karrer Zheng; Created Date: 3/9/2015; Capacitance: 10 pF
footprint WCAP-CSGP 0805, H=0.6mm
pins: 1, 2

## WCAP-CSGP 0805, 885012007052
designator C?, comment 15 pF
WCAP-CSGP MLCC, NP0, 0805, 15 pF,50Vdc; Manufacturer: Wurth Elektronik; partNo: 885012007052; E-mail: libraries@we-online.com; ComponentLink1Description: Manufacturer; ComponentLink1URL: http://www.we-online.com; ComponentLink2Description: Datasheet; ComponentLink2URL: http://katalog.we-online.de/pbs/datasheet/885012007052.pdf; Created by: Karrer Zheng; Created Date: 3/9/2015; Capacitance: 15 pF
footprint WCAP-CSGP 0805, H=0.6mm
pins: 1, 2

## WCAP-CSGP 0805, 885012007053
designator C?, comment 22 pF
WCAP-CSGP MLCC, NP0, 0805, 22 pF,50Vdc; Manufacturer: Wurth Elektronik; partNo: 885012007053; E-mail: libraries@we-online.com; ComponentLink1Description: Manufacturer; ComponentLink1URL: http://www.we-online.com; ComponentLink2Description: Datasheet; ComponentLink2URL: http://katalog.we-online.de/pbs/datasheet/885012007053.pdf; Created by: Karrer Zheng; Created Date: 3/9/2015; Capacitance: 22 pF
footprint WCAP-CSGP 0805, H=0.6mm
pins: 1, 2

## WCAP-CSGP 0805, 885012007054
designator C?, comment 33 pF
WCAP-CSGP MLCC, NP0, 0805, 33 pF,50Vdc; Manufacturer: Wurth Elektronik; partNo: 885012007054; E-mail: libraries@we-online.com; ComponentLink1Description: Manufacturer; ComponentLink1URL: http://www.we-online.com; ComponentLink2Description: Datasheet; ComponentLink2URL: http://katalog.we-online.de/pbs/datasheet/885012007054.pdf; Created by: Karrer Zheng; Created Date: 3/9/2015; Capacitance: 33 pF
footprint WCAP-CSGP 0805, H=0.6mm
pins: 1, 2

## WCAP-CSGP 0805, 885012007055
designator C?, comment 47 pF
WCAP-CSGP MLCC, NP0, 0805, 47 pF,50Vdc; Manufacturer: Wurth Elektronik; partNo: 885012007055; E-mail: libraries@we-online.com; ComponentLink1Description: Manufacturer; ComponentLink1URL: http://www.we-online.com; ComponentLink2Description: Datasheet; ComponentLink2URL: http://katalog.we-online.de/pbs/datasheet/885012007055.pdf; Created by: Karrer Zheng; Created Date: 3/9/2015; Capacitance: 47 pF
footprint WCAP-CSGP 0805, H=0.6mm
pins: 1, 2

## WCAP-CSGP 0805, 885012007056
designator C?, comment 68 pF
WCAP-CSGP MLCC, NP0, 0805, 68 pF,50Vdc; Manufacturer: Wurth Elektronik; partNo: 885012007056; E-mail: libraries@we-online.com; ComponentLink1Description: Manufacturer; ComponentLink1URL: http://www.we-online.com; ComponentLink2Description: Datasheet; ComponentLink2URL: http://katalog.we-online.de/pbs/datasheet/885012007056.pdf; Created by: Karrer Zheng; Created Date: 3/9/2015; Capacitance: 68 pF
footprint WCAP-CSGP 0805, H=0.6mm
pins: 1, 2

## WCAP-CSGP 0805, 885012007057
designator C?, comment 100 pF
WCAP-CSGP MLCC, NP0, 0805, 100 pF,50Vdc; Manufacturer: Wurth Elektronik; partNo: 885012007057; E-mail: libraries@we-online.com; ComponentLink1Description: Manufacturer; ComponentLink1URL: http://www.we-online.com; ComponentLink2Description: Datasheet; ComponentLink2URL: http://katalog.we-online.de/pbs/datasheet/885012007057.pdf; Created by: Karrer Zheng; Created Date: 3/9/2015; Capacitance: 100 pF
footprint WCAP-CSGP 0805, H=0.6mm
pins: 1, 2

## WCAP-CSGP 0805, 885012007058
designator C?, comment 150 pF
WCAP-CSGP MLCC, NP0, 0805, 150 pF,50Vdc; Manufacturer: Wurth Elektronik; partNo: 885012007058; E-mail: libraries@we-online.com; ComponentLink1Description: Manufacturer; ComponentLink1URL: http://www.we-online.com; ComponentLink2Description: Datasheet; ComponentLink2URL: http://katalog.we-online.de/pbs/datasheet/885012007058.pdf; Created by: Karrer Zheng; Created Date: 3/9/2015; Capacitance: 150 pF
footprint WCAP-CSGP 0805, H=0.6mm
pins: 1, 2

## WCAP-CSGP 0805, 885012007059
designator C?, comment 220 pF
WCAP-CSGP MLCC, NP0, 0805, 220 pF,50Vdc; Manufacturer: Wurth Elektronik; partNo: 885012007059; E-mail: libraries@we-online.com; ComponentLink1Description: Manufacturer; ComponentLink1URL: http://www.we-online.com; ComponentLink2Description: Datasheet; ComponentLink2URL: http://katalog.we-online.de/pbs/datasheet/885012007059.pdf; Created by: Karrer Zheng; Created Date: 3/9/2015; Capacitance: 220 pF
footprint WCAP-CSGP 0805, H=0.6mm
pins: 1, 2

## WCAP-CSGP 0805, 885012007060
designator C?, comment 330 pF
WCAP-CSGP MLCC, NP0, 0805, 330 pF,50Vdc; Manufacturer: Wurth Elektronik; partNo: 885012007060; E-mail: libraries@we-online.com; ComponentLink1Description: Manufacturer; ComponentLink1URL: http://www.we-online.com; ComponentLink2Description: Datasheet; ComponentLink2URL: http://katalog.we-online.de/pbs/datasheet/885012007060.pdf; Created by: Karrer Zheng; Created Date: 3/9/2015; Capacitance: 330 pF
footprint WCAP-CSGP 0805, H=0.6mm
pins: 1, 2